# EAGLE library part CAP_ARR_1206 (library awickert)
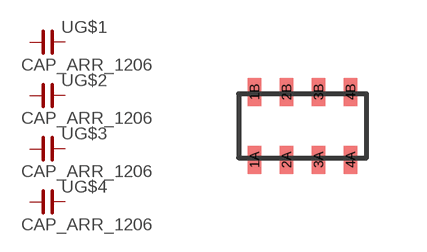
[diagram p8: symbol with the pads of 1206_4_CAP_ARRAY; footprint 1206_4_CAP_ARRAY]

Designator prefix -; gates G$1=CAP-NP G$2=CAP-NP G$3=CAP-NP G$4=CAP-NP

## CAP_ARR_1206  [1206_4_CAP_ARRAY]
1A  G$1:1  pas
1B  G$1:2  pas
2A  G$2:1  pas
2B  G$2:2  pas
3A  G$3:1  pas
3B  G$3:2  pas
4A  G$4:1  pas
4B  G$4:2  pas

## Footprint 1206_4_CAP_ARRAY (pad centres in mm)
smd 0.34 x 0.7: 1A 0.4,-0.05; 1B 0.4,1.65; 2A 1.2,-0.05; 2B 1.2,1.65; 3A 2,-0.05; 3B 2,1.65; 4A 2.8,-0.05; 4B 2.8,1.65